# EAGLE library part NPPC202KFMS-RC (library ik)
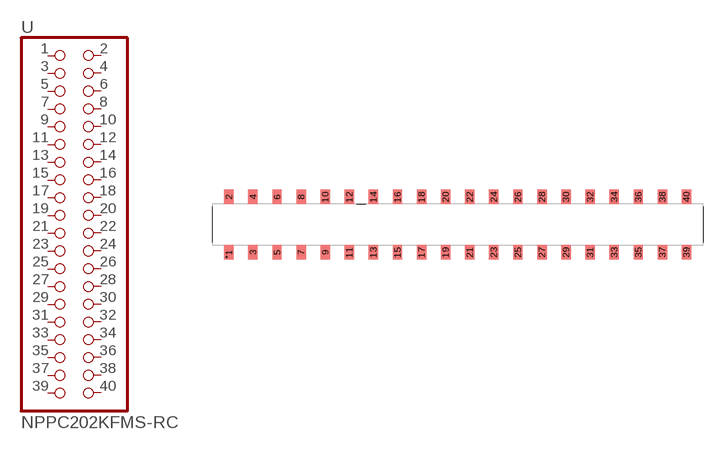
[diagram p3: symbol with the pads of NPPC202KFMS-RC; footprint NPPC202KFMS-RC]

Designator prefix -

## NPPC202KFMS-RC  [NPPC202KFMS-RC]
1  1  pas
2  2  pas
3  3  pas
4  4  pas
5  5  pas
6  6  pas
7  7  pas
8  8  pas
9  9  pas
10  10  pas
11  11  pas
12  12  pas
13  13  pas
14  14  pas
15  15  pas
16  16  pas
17  17  pas
18  18  pas
19  19  pas
20  20  pas
21  21  pas
22  22  pas
23  23  pas
24  24  pas
25  25  pas
26  26  pas
27  27  pas
28  28  pas
29  29  pas
30  30  pas
31  31  pas
32  32  pas
33  33  pas
34  34  pas
35  35  pas
36  36  pas
37  37  pas
38  38  pas
39  39  pas
40  40  pas

## Footprint NPPC202KFMS-RC (pad centres in mm)
smd 0.991 x 1.549: 1 -25.146,-2.794; 2 -25.146,3.048; 3 -22.606,-2.794; 4 -22.606,3.048; 5 -20.066,-2.794; 6 -20.066,3.048; 7 -17.526,-2.794; 8 -17.526,3.048; 9 -14.986,-2.794; 10 -14.986,3.048; 11 -12.446,-2.794; 12 -12.446,3.048; 13 -9.906,-2.794; 14 -9.906,3.048; 15 -7.366,-2.794; 16 -7.366,3.048; 17 -4.826,-2.794; 18 -4.826,3.048; 19 -2.286,-2.794; 20 -2.286,3.048; 21 0.254,-2.794; 22 0.254,3.048; 23 2.794,-2.794; 24 2.794,3.048; 25 5.334,-2.794; 26 5.334,3.048; 27 7.874,-2.794; 28 7.874,3.048; 29 10.414,-2.794; 30 10.414,3.048; 31 12.954,-2.794; 32 12.954,3.048; 33 15.494,-2.794; 34 15.494,3.048; 35 18.034,-2.794; 36 18.034,3.048; 37 20.574,-2.794; 38 20.574,3.048; 39 23.114,-2.794; 40 23.114,3.048